# EAGLE library part TPS62175DQCR (library rezzonics)
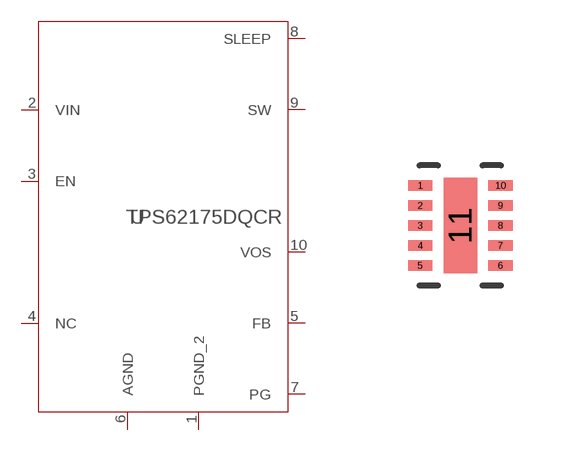
[diagram p28: symbol with the pads of R-PWSON-N10; footprint R-PWSON-N10]

Designator prefix -

## TPS62175DQCR (DATASHEETURL: httpwww.ti.comproducttps62175; FREQUENCY: 1000000.0; IMAX: 0.5; MANUFACTURER_NAME: Texas Instruments; MANUFACTURER_PART_NUMBER: TPS62175DQCR; MKTG_PACKAGE: TPS62175; NSID: TPS62175DQCR; PACKAGE: TPS62175; VENDOR: Texas Instruments)  [R-PWSON-N10]
1  PGND_2  pas
2  VIN  pas
3  EN  pas
4  NC  pas
5  FB  pas
6  AGND  pas
7  PG  pas
8  SLEEP  pas
9  SW  pas
10  VOS  pas

## Footprint R-PWSON-N10 (pad centres in mm)
smd 0.61 x 0.254: 1 -1.003,1; 2 -1.003,0.5; 3 -1.003,0; 4 -1.003,-0.5; 5 -1.003,-1; 6 1.003,-1; 7 1.003,-0.5; 8 1.003,0; 9 1.003,0.5; 10 1.003,1
smd 0.838 x 2.388: 11 0,0